# Altium footprint library R_C.PcbLib: 46 footprints (part 1 of 3)
Each footprint in its own frame and in the unit in brackets; x right, y up, seen from the top. Pads: shape width x height; smd on the part's side, far side on the other; paste and mask are expansions set on the pad; w line width, h text height; cw(c..) or ccw(c..) is an arc to the next point about the centre after c.
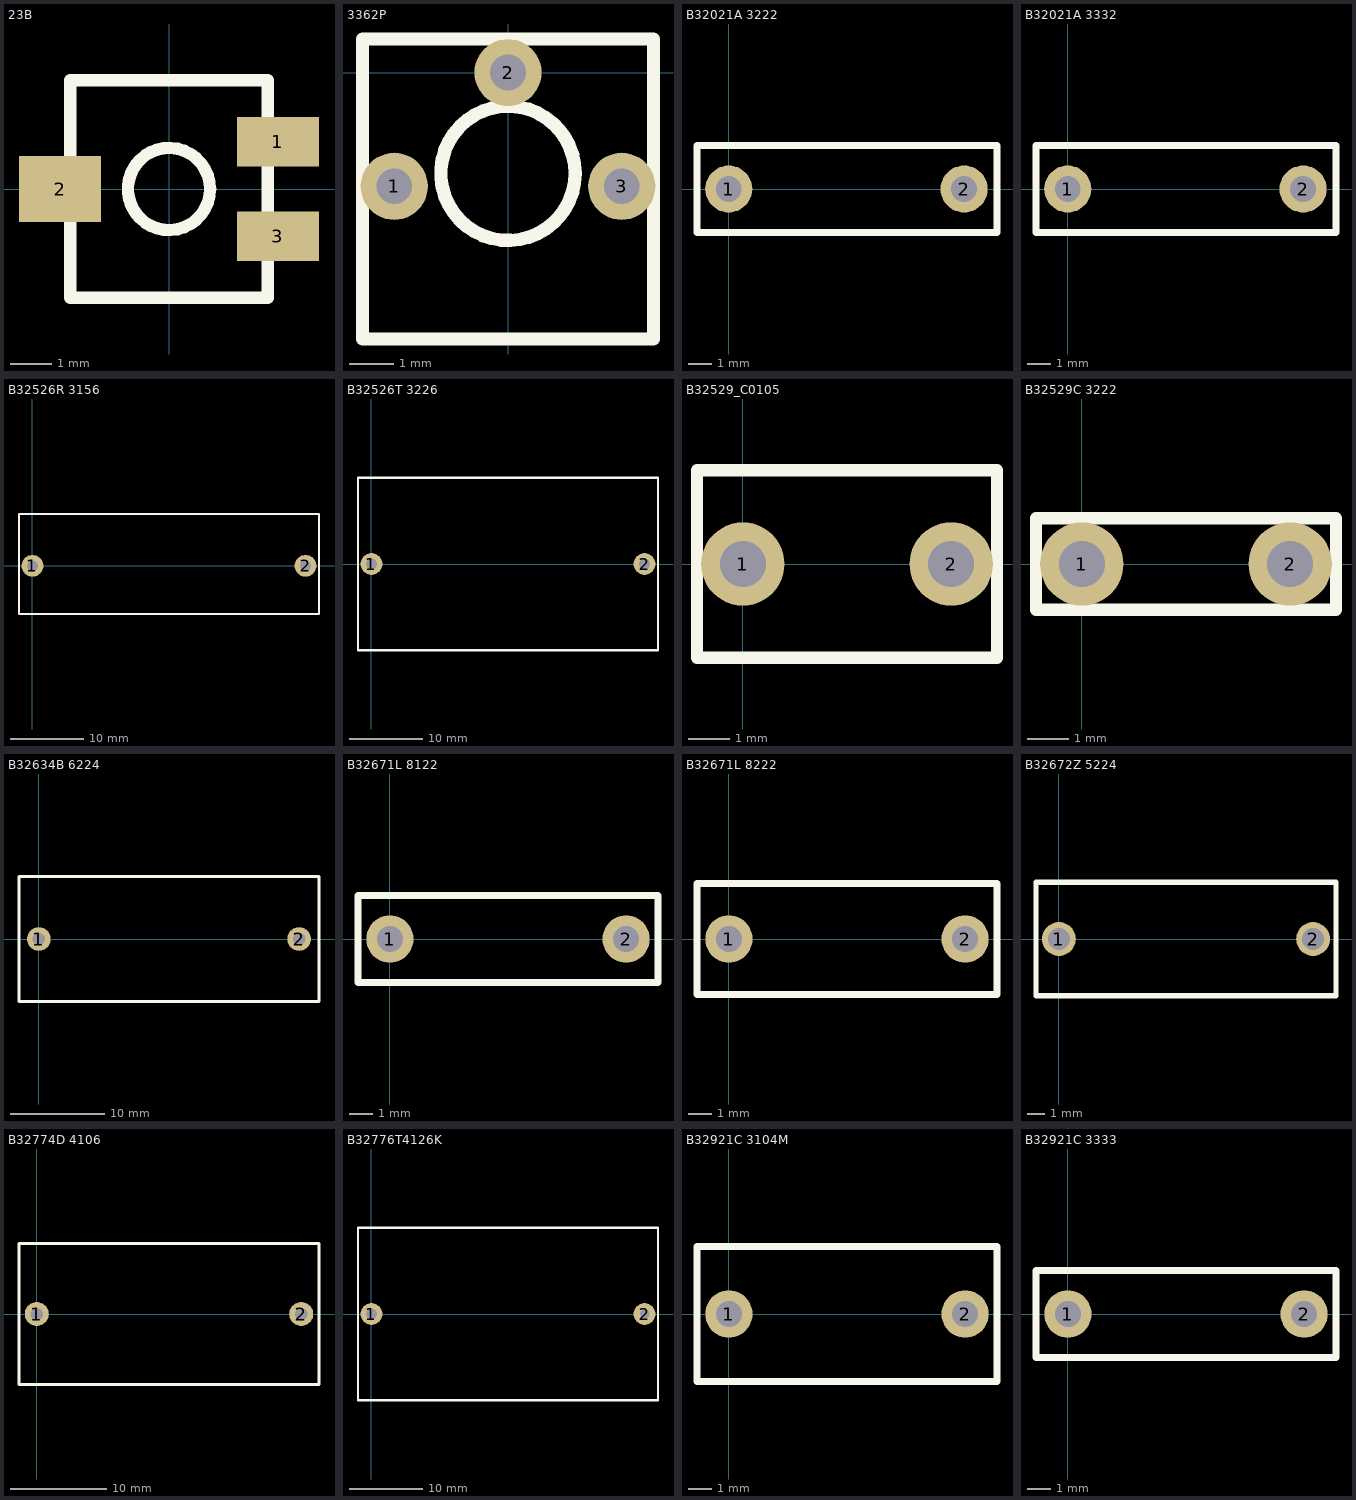
[diagram p0: the footprints below, top view; thin cyan lines are the x and y axes]

## 23B [mm]
height 3.1
pads (3):
  rect 2x1.2 smd: 1(2.65,1.15) 3(2.65,-1.15)
  rect 2x1.6 smd: 2(-2.65,0)
Top Overlay:
  circle w0.3: c0,0 r1
  lines w0.3: -2.4,-2.65 2.4,-2.65 2.4,2.65 -2.4,2.65 -2.4,-2.65
3D body: height 3.1, standoff 0, extent -3.4,-2.65 3.4,2.65

## 3362P [mm]
height 5.4
pads (3):
  round 1.5 hole 0.8: 1(-2.54,-2.54) 2(0,0) 3(2.54,-2.54)
Top Overlay:
  circle w0.3: c0,-2.25 r1.5
  lines w0.3: -3.25,-5.95 3.25,-5.95 3.25,0.75 -3.25,0.75 -3.25,-5.95
3D body: height 3, standoff 0, extent -0.496,-0.499 0.5,0.499
3D body: height 3, standoff 0, extent 2.044,-3.039 3.04,-2.041
3D body: height 3, standoff 0, extent -3.036,-3.039 -2.04,-2.041
3D body: height 4.7, standoff 4.6, extent -1.488,-3.747 1.5,-0.753
3D body: height 4.6, standoff 0, extent -3.4,-6.1 3.4,0.9

## B32021A 3222 [mm]
height 9
pads (2):
  round 2 hole 1.1: 1(0,0) 2(10,0)
Top Overlay:
  lines w0.3: -1.35,-1.85 -1.35,1.85 11.4,1.85 11.4,-1.85 -1.35,-1.85
3D body: height 3, standoff -2, extent 9.504,-0.499 10.5,0.499
3D body: height 9, standoff 0, extent -1.5,-2 11.5,2

## B32021A 3332 [mm]
height 9
pads (2):
  round 2 hole 1.1: 1(0,0) 2(10,0)
Top Overlay:
  lines w0.3: -1.35,-1.85 -1.35,1.85 11.4,1.85 11.4,-1.85 -1.35,-1.85
3D body: height 3, standoff -2, extent -0.496,-0.499 0.5,0.499
3D body: height 3, standoff -2, extent 9.504,-0.499 10.5,0.499
3D body: height 9, standoff 0, extent -1.5,-2 11.5,2

## B32526R 3156 [mm]
height 25
pads (2):
  round 3 hole 1.5: 1(0,0) 2(37.5,0)
Top Overlay:
  lines w0.3: -1.85,-6.6 39.35,-6.6 39.35,7.1 -1.85,7.1 -1.85,-6.6
3D body: height 25, standoff 0, extent -2,-6.75 39.5,7.25
3D body: height 3, standoff -2, extent 37.004,-0.499 38,0.499
3D body: height 3, standoff -2, extent -0.496,-0.499 0.5,0.499

## B32526T 3226 [mm]
height 19
pads (2):
  round 3 hole 1.5: 1(0,0) 2(37.5,0)
Top Overlay:
  lines w0.3: -1.85,-11.85 39.35,-11.85 39.35,11.85 -1.85,11.85 -1.85,-11.85
3D body: height 3, standoff -2, extent -0.496,-0.499 0.5,0.499
3D body: height 3, standoff -2, extent 37.004,-0.499 38,0.499
3D body: height 19, standoff 0, extent -2,-12 39.5,12

## B32529_C0105 [mm]
pads (2):
  round 2 hole 1.1: 1(0,0) 2(5,0)
Top Overlay:
  lines w0.3: -1.1,-2.25 6.1,-2.25 6.1,2.25 -1.1,2.25 -1.1,-2.25
3D body: height 3, standoff 0, extent 4.504,-0.499 5.5,0.499
3D body: height 3, standoff 0, extent -0.496,-0.499 0.5,0.499

## B32529C 3222 [mm]
height 6.5
pads (2):
  round 2 hole 1.1: 1(0,0) 2(5,0)
Top Overlay:
  lines w0.3: -1.1,-1.1 -1.1,1.1 6.1,1.1 6.1,-1.1 -1.1,-1.1
3D body: height 6.5, standoff 0, extent -1.25,-1.25 6.25,1.25
3D body: height 3, standoff 0, extent -0.496,-0.499 0.5,0.499
3D body: height 3, standoff 0, extent 4.504,-0.499 5.5,0.499

## B32634B 6224 [mm]
height 22.5
pads (2):
  round 2.5 hole 1.3: 1(0,0) 2(27.5,0)
Top Overlay:
  lines w0.3: -2.1,-6.6 29.6,-6.6 29.6,6.6 -2.1,6.6 -2.1,-6.6
3D body: height 3, standoff 0, extent 27.004,-0.499 28,0.499
3D body: height 22.5, standoff 0, extent -2.25,-6.75 29.75,6.75
3D body: height 3, standoff 0, extent -0.496,-0.499 0.5,0.499

## B32671L 8122 [mm]
height 9
pads (2):
  round 2 hole 1.1: 1(0,0) 2(10,0)
Top Overlay:
  lines w0.3: -1.35,-1.85 -1.35,1.85 11.35,1.85 11.35,-1.85 -1.35,-1.85
3D body: height 9, standoff 0, extent -1.5,-2 11.5,2
3D body: height 3, standoff 0, extent 9.504,-0.499 10.5,0.499
3D body: height 3, standoff 0, extent -0.496,-0.499 0.5,0.499

## B32671L 8222 [mm]
height 11
pads (2):
  round 2 hole 1.1: 1(0,0) 2(10,0)
Top Overlay:
  lines w0.3: -1.35,-2.35 11.35,-2.35 11.35,2.35 -1.35,2.35 -1.35,-2.35
3D body: height 3, standoff 0, extent -0.496,-0.499 0.5,0.499
3D body: height 3, standoff 0, extent 9.504,-0.499 10.5,0.499
3D body: height 11, standoff 0, extent -1.5,-2.5 11.5,2.5

## B32672Z 5224 [mm]
height 12.5
pads (2):
  round 2 hole 1.3: 1(0,0) 2(15,0)
Top Overlay:
  lines w0.3: -1.35,-3.35 16.35,-3.35 16.35,3.35 -1.35,3.35 -1.35,-3.35
3D body: height 3, standoff 0, extent -0.496,-0.499 0.5,0.499
3D body: height 3, standoff 0, extent 14.504,-0.499 15.5,0.499
3D body: height 12.5, standoff 0, extent -1.5,-3.5 16.5,3.5

## B32774D 4106 [mm]
height 24.5
pads (2):
  round 2.5 hole 1.3: 1(0,0) 2(27.5,0)
Top Overlay:
  lines w0.3: -1.85,-7.35 29.35,-7.35 29.35,7.35 -1.85,7.35 -1.85,-7.35
3D body: height 24.5, standoff 0, extent -2,-7.5 29.5,7.5
3D body: height 3, standoff 0, extent 27.004,-0.499 28,0.499
3D body: height 3, standoff 0, extent -0.496,-0.499 0.5,0.499

## B32776T4126K [mm]
height 15
pads (2):
  round 3 hole 1.5: 1(0,0)
  round 3 hole 1.3: 2(37.5,0)
Top Overlay:
  lines w0.3: -1.85,-11.85 39.35,-11.85 39.35,11.85 -1.85,11.85 -1.85,-11.85
3D body: height 15, standoff 0, extent -2,-12 39.5,12
3D body: height 3, standoff 0, extent 37.004,-0.499 38,0.499
3D body: height 3, standoff 0, extent -0.496,-0.499 0.5,0.499

## B32921C 3104M [mm]
height 12
pads (2):
  round 2 hole 1.1: 1(0,0) 2(10,0)
Top Overlay:
  lines w0.3: -1.35,-2.85 -1.35,2.85 11.35,2.85 11.35,-2.85 -1.35,-2.85
3D body: height 3, standoff 0, extent -0.496,-0.499 0.5,0.499
3D body: height 3, standoff 0, extent 9.504,-0.499 10.5,0.499
3D body: height 12, standoff 0, extent -1.5,-3 11.5,3

## B32921C 3333 [mm]
height 9
pads (2):
  round 2 hole 1.1: 1(0,0) 2(10,0)
Top Overlay:
  lines w0.3: -1.35,-1.85 -1.35,1.85 11.35,1.85 11.35,-1.85 -1.35,-1.85
3D body: height 3, standoff 0, extent 9.504,-0.499 10.5,0.499
3D body: height 3, standoff 0, extent -0.496,-0.499 0.5,0.499
3D body: height 9, standoff 0, extent -1.5,-2 11.5,2